# EAGLE library part ADG2188 (library p.peter-ics)
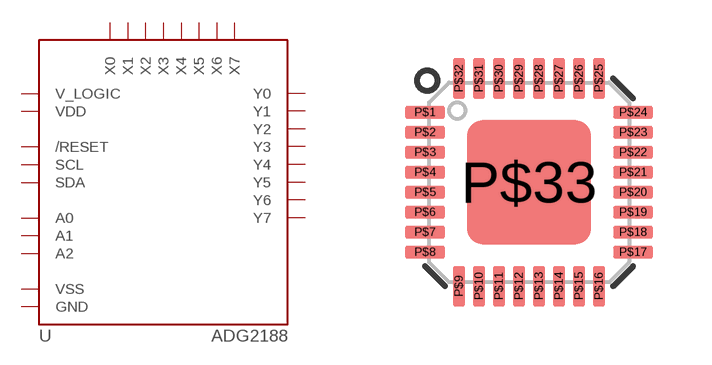
[diagram p17: symbol with the pads of LFCSP_VQ-32; footprint LFCSP_VQ-32]

Designator prefix -

## ADG2188  [LFCSP_VQ-32]
P$1  VSS
P$3  X0
P$4  X1
P$5  X2
P$6  X3
P$7  X4
P$8  X5
P$9  Y0
P$10  Y1
P$11  Y2
P$12  Y3
P$13  Y4
P$14  Y5
P$15  Y6
P$16  Y7
P$17  X6
P$18  X7
P$24  VDD
P$25  V_LOGIC
P$26  SDA
P$27  SCL
P$28  A0
P$29  A1
P$30  A2
P$31  /RESET
P$32  GND
P$33  VSS

## Footprint LFCSP_VQ-32 (pad centres in mm)
smd 1 x 0.3: P$1 -2.6,1.75; P$2 -2.6,1.25; P$3 -2.6,0.75; P$4 -2.6,0.25; P$5 -2.6,-0.25; P$6 -2.6,-0.75; P$7 -2.6,-1.25; P$8 -2.6,-1.75; P$17 2.6,-1.75; P$18 2.6,-1.25; P$19 2.6,-0.75; P$20 2.6,-0.25; P$21 2.6,0.25; P$22 2.6,0.75; P$23 2.6,1.25; P$24 2.6,1.75
smd 0.3 x 1: P$9 -1.75,-2.6; P$10 -1.25,-2.6; P$11 -0.75,-2.6; P$12 -0.25,-2.6; P$13 0.25,-2.6; P$14 0.75,-2.6; P$15 1.25,-2.6; P$16 1.75,-2.6; P$25 1.75,2.6; P$26 1.25,2.6; P$27 0.75,2.6; P$28 0.25,2.6; P$29 -0.25,2.6; P$30 -0.75,2.6; P$31 -1.25,2.6; P$32 -1.75,2.6
smd 3.1 x 3.1: P$33 0,0